# Altium footprint library PcbLib2.PcbLib: 18 footprints (part 2 of 2)
Each footprint in its own frame and in the unit in brackets; x right, y up, seen from the top. Pads: shape width x height; smd on the part's side, far side on the other; paste and mask are expansions set on the pad; w line width, h text height; cw(c..) or ccw(c..) is an arc to the next point about the centre after c.
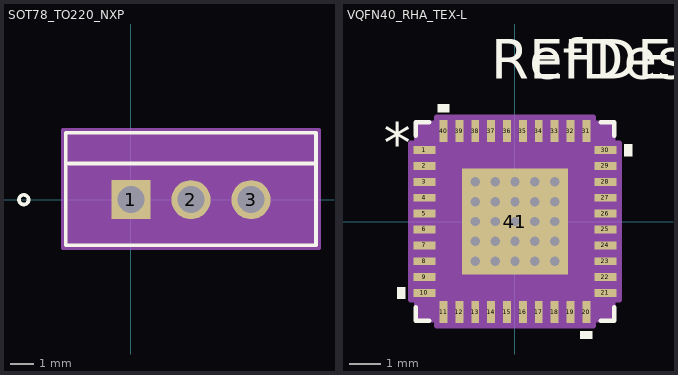
[diagram p1: the footprints below, top view; thin cyan lines are the x and y axes]

## SOT78_TO220_NXP [mil]
pads (3):
  rect 65x65 hole 45 paste-99999 mask+0: 1(0,0)
  round 65 hole 45 paste-99999 mask+0: 2(100,0) 3(200,0)
Top Overlay:
  circle w6: c-178,0 r8
  lines w6: -103,60.3 303,60.3 ; -108,-75.7 308,-75.7 308,111.3 -108,111.3 -108,-75.7
  text ".Designator" at -37.5,-7.2 h50
Mechanical 13:
  circle w1: c-93,-60.7 r8
  lines w1: -103,55.3 303,55.3 ; -103,-70.7 303,-70.7 303,106.3 -103,106.3 -103,-70.7
  text ".Designator" at -37.5,-7.2 h50
  text "TAB" at 81.25,68.3 h25
Mechanical 15:
  region: 313,116.3 -113,116.3 -113,-80.7 313,-80.7
  lines w6: -113,-80.7 -113,116.3 313,116.3 313,-80.7 -113,-80.7
3D body "SOT78_TO220_NXP.step": height 740, standoff -240, extent -102.99,-70.71 302.99,106.3

## VQFN40_RHA_TEX-L [mil]
pads (41):
  rect 28x10 smd paste+0 mask+0: 1(-114,90) 2(-114,70) 3(-114,50) 4(-114,30) 5(-114,10) 6(-114,-10) 7(-114,-30) 8(-114,-50) 9(-114,-70) 10(-114,-90) 21(114,-90) 22(114,-70) 23(114,-50) 24(114,-30) 25(114,-10) 26(114,10) 27(114,30) 28(114,50) 29(114,70) 30(114,90)
  rect 10x28 smd paste+0 mask+0: 11(-90,-114) 12(-70,-114) 13(-50,-114) 14(-30,-114) 15(-10,-114) 16(10,-114) 17(30,-114) 18(50,-114) 19(70,-114) 20(90,-114) 31(90,114) 32(70,114) 33(50,114) 34(30,114) 35(10,114) 36(-10,114) 37(-30,114) 38(-50,114) 39(-70,114) 40(-90,114)
  rect 134x134 smd paste-67 mask+0: 41(0,0)
via 0,0 diameter 17.72 hole 11.81
via -25,0 diameter 17.72 hole 11.81
via -50,0 diameter 17.72 hole 11.81
via 25,0 diameter 17.72 hole 11.81
via 50,0 diameter 17.72 hole 11.81
via 0,-25 diameter 17.72 hole 11.81
via -25,-25 diameter 17.72 hole 11.81
via -50,-25 diameter 17.72 hole 11.81
via 25,-25 diameter 17.72 hole 11.81
via 50,-25 diameter 17.72 hole 11.81
via 0,25 diameter 17.72 hole 11.81
via -25,25 diameter 17.72 hole 11.81
via -50,25 diameter 17.72 hole 11.81
via 25,25 diameter 17.72 hole 11.81
via 50,25 diameter 17.72 hole 11.81
via 0,50 diameter 17.72 hole 11.81
via -25,50 diameter 17.72 hole 11.81
via -50,50 diameter 17.72 hole 11.81
via 25,50 diameter 17.72 hole 11.81
via 50,50 diameter 17.72 hole 11.81
via 0,-50 diameter 17.72 hole 11.81
via -25,-50 diameter 17.72 hole 11.81
via -50,-50 diameter 17.72 hole 11.81
via 25,-50 diameter 17.72 hole 11.81
via 50,-50 diameter 17.72 hole 11.81
Top Overlay:
  region: -138,-82.5 -148,-82.5 -148,-97.5 -138,-97.5
  region: 97.5,-138 82.5,-138 82.5,-148 97.5,-148
  region: 138,97.5 148,97.5 148,82.5 138,82.5
  region: -82.5,138 -97.5,138 -97.5,148 -82.5,148
  lines w6: -125,-108.1 -125,-125 -108.1,-125 ; -125,108.1 -125,125 -108.1,125 ; 108.1,-125 125,-125 125,-108.1 ; 108.1,125 125,125 125,108.1
  text "*" at -165.5,75 h50
  text "RefDes" at -30,180 h50
  text "REFDES" at -30,180 h50
Top Paste:
  region: -3.94,63.06 -63.06,63.06 -63.06,3.94 -3.94,3.94
  region: -3.94,-3.94 -63.06,-3.94 -63.06,-63.06 -3.94,-63.06
  region: 63.06,63.06 3.94,63.06 3.94,3.94 63.06,3.94
  region: 63.06,-3.94 3.94,-3.94 3.94,-63.06 63.06,-63.06
Mechanical 13:
  lines w1: -120,70 -70,120 ; -120,-120 120,-120 120,120 -120,120 -120,-120 ; -120,-96 -120,-84 -120,-96 ; -120,-76 -120,-64 -120,-76 ; -120,-56 -120,-44 -120,-56 ; -120,-36 -120,-24 -120,-36 ; -120,-16 -120,-4 -120,-16 ; -120,4 -120,16 -120,4 ; -120,24 -120,36 -120,24 ; -120,44 -120,56 -120,44 ; -120,64 -120,76 -120,64 ; -120,84 -120,96 -120,84 ; -96,-120 -84,-120 -96,-120 ; -96,120 -84,120 -96,120 ; -76,-120 -64,-120 -76,-120 ; -76,120 -64,120 -76,120 ; -56,-120 -44,-120 -56,-120 ; -56,120 -44,120 -56,120 ; -36,-120 -24,-120 -36,-120 ; -36,120 -24,120 -36,120 ; -16,-120 -4,-120 -16,-120 ; -16,120 -4,120 -16,120 ; 4,-120 16,-120 4,-120 ; 4,120 16,120 4,120 ; 24,-120 36,-120 24,-120 ; 24,120 36,120 24,120 ; 44,-120 56,-120 44,-120 ; 44,120 56,120 44,120 ; 64,-120 76,-120 64,-120 ; 64,120 76,120 64,120 ; 84,-120 96,-120 84,-120 ; 84,120 96,120 84,120 ; 120,-96 120,-84 120,-96 ; 120,-76 120,-64 120,-76 ; 120,-56 120,-44 120,-56 ; 120,-36 120,-24 120,-36 ; 120,-16 120,-4 120,-16 ; 120,4 120,16 120,4 ; 120,24 120,36 120,24 ; 120,44 120,56 120,44 ; 120,64 120,76 120,64 ; 120,84 120,96 120,84
  text "*" at -112.5,75 h50
  text "RefDes2" at -30,180 h50
Mechanical 15:
  region: -99,-124 -124,-124 -124,-99 -132,-99 -132,99 -124,99 -124,124 -99,124 -99,132 99,132 99,124 124,124 124,99 132,99 132,-99 124,-99 124,-124 99,-124 99,-132 -99,-132
  lines w6: -132,-99 -124,-99 -124,-124 -99,-124 -99,-132 99,-132 99,-124 124,-124 124,-99 132,-99 132,99 124,99 124,124 99,124 99,132 -99,132 -99,124 -124,124 -124,99 -132,99 -132,-99
3D body "VQFN40_RHA_TEX.step": height 39.09, standoff 0, extent -120,-120 120,120